# Altium footprint library SOIC.PcbLib: 20 footprints (part 2 of 2)
Each footprint in its own frame and in the unit in brackets; x right, y up, seen from the top. Pads: shape width x height; smd on the part's side, far side on the other; paste and mask are expansions set on the pad; w line width, h text height; cw(c..) or ccw(c..) is an arc to the next point about the centre after c.
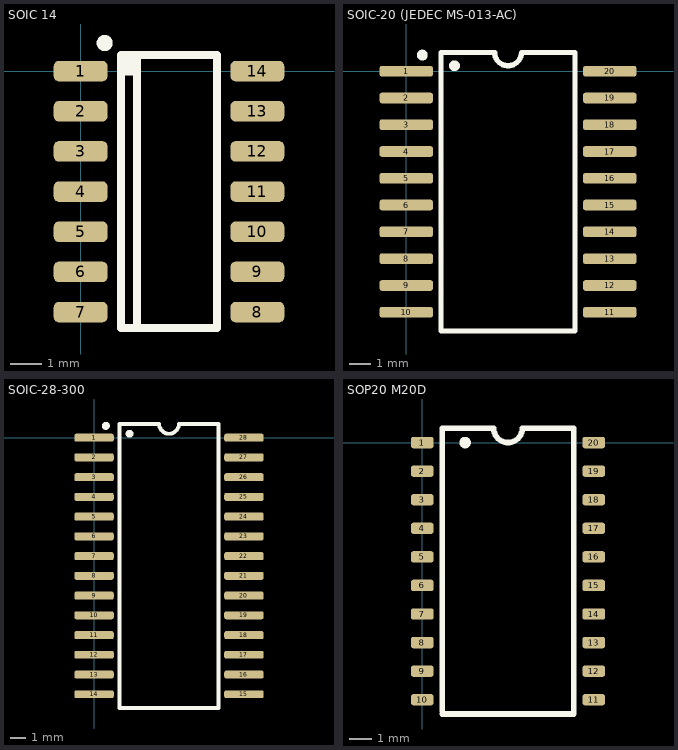
[diagram p1: the footprints below, top view; thin cyan lines are the x and y axes]

## SOIC 14 [mm]
pads (14):
  rrect50% 1.7x0.65 smd: 1(0,0) 2(0,-1.27) 3(0,-2.54) 4(0,-3.81) 5(0,-5.08) 6(0,-6.35) 7(0,-7.62) 8(5.59,-7.62) 9(5.59,-6.35) 10(5.59,-5.08) 11(5.59,-3.81) 12(5.59,-2.54) 13(5.59,-1.27) 14(5.59,0)
Top Overlay:
  circle w0.254: c0.762,0.889 r0.127
  region: 1.651,0.381 1.397,0.381 1.397,-0.127 1.651,-0.127
  lines w0.254: 1.778,-8.128 1.778,0.508 ; 1.27,-8.128 4.318,-8.128 4.318,0.508 1.27,0.508 1.27,-8.128
Top Assembly:
  text ".Designator" at 3.433,-8.798 h1
3D body "SW3dPS-SOIC14-150.STEP": height 1.75, standoff 0, extent -0.1,-8.05 5.7,0.5

## SOIC-20 (JEDEC MS-013-AC) [mil]
pads (20):
  rrect50% 100x20 smd: 1(0,0) 2(0,-50) 3(0,-100) 4(0,-150) 5(0,-200) 6(0,-250) 7(0,-300) 8(0,-350) 9(0,-400) 10(0,-450) 11(379.92,-450) 12(379.92,-400) 13(379.92,-350) 14(379.92,-300) 15(379.92,-250) 16(379.92,-200) 17(379.92,-150) 18(379.92,-100) 19(379.92,-50) 20(379.92,0)
Top Overlay:
  circle w10: c30,30 r5
  circle w10: c90,10 r5
  lines w9.84: 65,-485 315,-485 315,35 215,35 cw(c190,35) 165,35 65,35 65,-485
Top Assembly:
  text ".Designator" at 202.1,-425.13 h39.37
3D body "User Library-SO-20 (Wide).STEP": height 106.3, standoff 0, extent -12.8,-476.97 392.72,26.97

## SOIC-28-300 [mil]
pads (28):
  rrect50% 100x20 smd: 1(0,0) 2(0,-50) 3(0,-100) 4(0,-150) 5(0,-200) 6(0,-250) 7(0,-300) 8(0,-350) 9(0,-400) 10(0,-450) 11(0,-500) 12(0,-550) 13(0,-600) 14(0,-650) 15(379.92,-650) 16(379.92,-600) 17(379.92,-550) 18(379.92,-500) 19(379.92,-450) 20(379.92,-400) 21(379.92,-350) 22(379.92,-300) 23(379.92,-250) 24(379.92,-200) 25(379.92,-150) 26(379.92,-100) 27(379.92,-50) 28(379.92,0)
Top Overlay:
  circle w10: c30,30 r5
  circle w10: c90,10 r5
  lines w9.84: 65,-685 315,-685 315,35 215,35 cw(c190,35) 165,35 65,35 65,-685
Top Assembly:
  text ".Designator" at 206.03,-523.56 h39.37
3D body "User Library-SOIC-28-300.STEP": height 101.38, standoff -0.98, extent -17.72,-681.1 399.61,31.5

## SOP20 M20D [mil]
pads (20):
  rrect50% 40x20 smd: 1(0,0) 2(0,-50) 3(0,-100) 4(0,-150) 5(0,-200) 6(0,-250) 7(0,-300) 8(0,-350) 9(0,-400) 10(0,-450) 11(300,-450) 12(300,-400) 13(300,-350) 14(300,-300) 15(300,-250) 16(300,-200) 17(300,-150) 18(300,-100) 19(300,-50) 20(300,0)
Top Overlay:
  circle w10: c75,0 r5
  lines w9.84: 35,-475 265,-475 265,25 175,25 cw(c150,25) 125,25 35,25 35,-470
Top Assembly:
  text ".Designator" at 162.73,-421.2 h39.37